# Altium schematic symbol library INDV.SCHLIB: 1 symbol
Pins are listed as number, name and electrical type; pins without a type are passive.

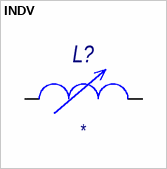
[diagram p0: symbol INDV]

## INDV
designator L?
Value: *
pins: 1, 2